# Altium footprint library RM024_ThroughHole.PcbLib: 1 footprints
Each footprint in its own frame and in the unit in brackets; x right, y up, seen from the top. Pads: shape width x height; smd on the part's side, far side on the other; paste and mask are expansions set on the pad; w line width, h text height; cw(c..) or ccw(c..) is an arc to the next point about the centre after c.
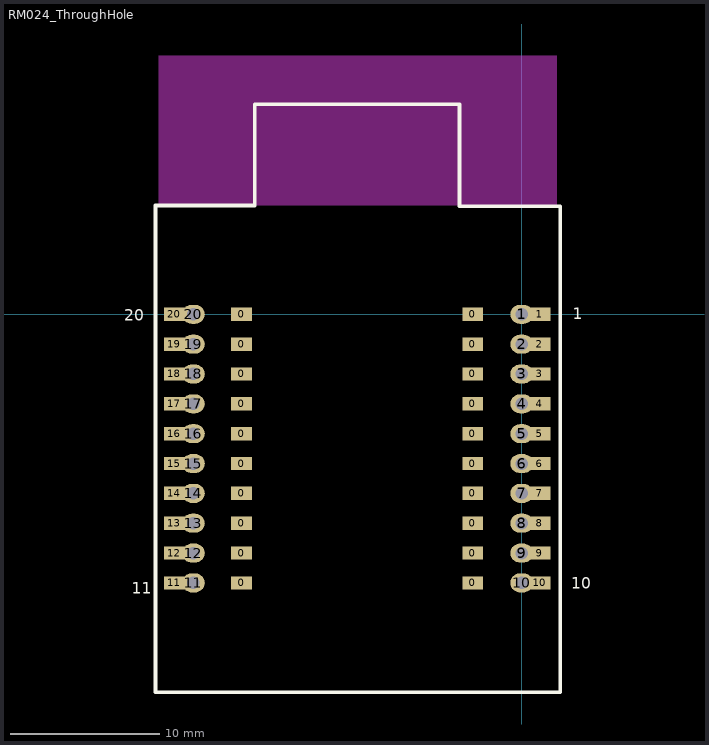
[diagram p0: the footprint, top view; thin cyan lines are the x and y axes]

## RM024_ThroughHole [mil]
pads (60):
  rect 55x35 smd: 0(-738.83,-708.66) 0(-738.83,-629.92) 0(-738.83,-551.18) 0(-738.83,-472.44) 0(-738.83,-393.7) 0(-738.83,-314.96) 0(-738.83,-236.22) 0(-738.83,-157.48) 0(-738.83,-78.74) 0(-738.83,0) 0(-129,-708.66) 0(-129,-629.92) 0(-129,-551.18) 0(-129,-472.44) 0(-129,-393.7) 0(-129,-314.96) 0(-129,-236.22) 0(-129,-157.48) 0(-129,-78.74) 0(-129,0) 1(48.17,0) 2(48.17,-78.74) 3(48.17,-157.48) 4(48.17,-236.22) 5(48.17,-314.96) 6(48.17,-393.7) 7(48.17,-472.44) 8(48.17,-551.18) 9(48.17,-629.92) 10(48.17,-708.66) 11(-916,-708.66) 12(-916,-629.92) 13(-916,-551.18) 14(-916,-472.44) 15(-916,-393.7) 16(-916,-314.96) 17(-916,-236.22) 18(-916,-157.48) 19(-916,-78.74) 20(-916,0)
  oval 60x50 hole 33 paste+0 mask+0: 1(0,0) 2(0,-78.74) 3(0,-157.48) 4(0,-236.22) 5(0,-314.96) 6(0,-393.7) 7(0,-472.44) 8(0,-551.18) 9(0,-629.92) 10(0,-708.66) 11(-866,-708.66) 12(-866,-629.92) 13(-866,-551.18) 14(-866,-472.44) 15(-866,-393.7) 16(-866,-314.96) 17(-866,-236.22) 18(-866,-157.48) 19(-866,-78.74) 20(-866,0)
Top Overlay:
  lines w10: -966,-997 -966,287 -704,287 -704,554 -164,554 -164,285 102,285 102,-997 -966,-997
  text "20" at -1049,-17.66 h30
  text "11" at -1028.3,-737 h30
  text "10" at 131,-724.66 h30
  text "1" at 134.3,-13 h30
Bottom Overlay:
  lines w10: -964,-995 102,-995 102,285 -163,285 -163,553 -703,553 -703,287 -964,287 -964,-995
  text "20" at -1002.3,-19.66 h30
  text "10" at 167.3,-725.66 h30
  text "11" at -999,-732.66 h30
  text "1" at 143,-6.66 h30
Keep-Out Layer:
  region: -958,682 92,682 92,288 -958,288
3D body: height 88.5, standoff 0, extent -928.8,-747.49 -725.8,39.51
3D body: height 88.5, standoff 0, extent -141.2,-748.42 61.8,38.58
3D body: height 226, standoff -180, extent -913,-984.58 47,435.42